# EAGLE library part MMC5983MA (library FlashPCB_Sensors)
MMC5983MA - 3-Axis Magnetometer Technical Specifications: Voltage - Supply: 2.8V ~ 3.5V Current - Supply (Max): 450µA Current - Output (Max): - Operating Temperature: -40°C ~ 105°C Max output data rate of 1000Hz Low power consumption Component Search: Microsoft Word - MMC5983MA Datasheet Rev A <[FLASHPCB URL]> Datasheet: Microsoft Word - MMC5983MA Datasheet Rev A <https://media.digikey.com/pdf/Data%20Sheets/MEMSIC%20PDFs/MMC5983MA_RevA_4-3-19.pdf>
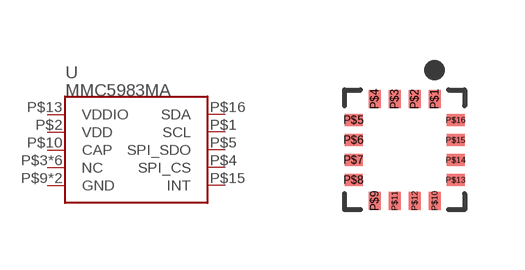
[diagram p15: symbol with the pads of 16-LGA(3X3); footprint 16-LGA(3X3)]

Designator prefix U

## MMC5983MA  [16-LGA(3X3)]
P$1  SCL
P$2  VDD
P$3  NC
P$4  SPI_CS
P$5  SPI_SDO
P$6  NC
P$7  NC
P$8  NC
P$9  GND
P$10  CAP
P$11  GND
P$12  NC
P$13  VDDIO
P$14  NC
P$15  INT
P$16  SDA

## Footprint 16-LGA(3X3) (pad centres in mm)
smd 0.3 x 0.45: P$1 0.75,1.275; P$2 0.25,1.275; P$3 -0.25,1.275; P$4 -0.75,1.275; P$9 -0.75,-1.275; P$10 0.75,-1.275; P$11 -0.25,-1.275; P$12 0.25,-1.275
smd 0.45 x 0.3: P$5 -1.275,0.75; P$6 -1.275,0.25; P$7 -1.275,-0.25; P$8 -1.275,-0.75; P$13 1.275,-0.75; P$14 1.275,-0.25; P$15 1.275,0.25; P$16 1.275,0.75